# Altium footprint library Footprint.PcbLib: 240 footprints (part 9 of 15)
Each footprint in its own frame and in the unit in brackets; x right, y up, seen from the top. Pads: shape width x height; smd on the part's side, far side on the other; paste and mask are expansions set on the pad; w line width, h text height; cw(c..) or ccw(c..) is an arc to the next point about the centre after c.
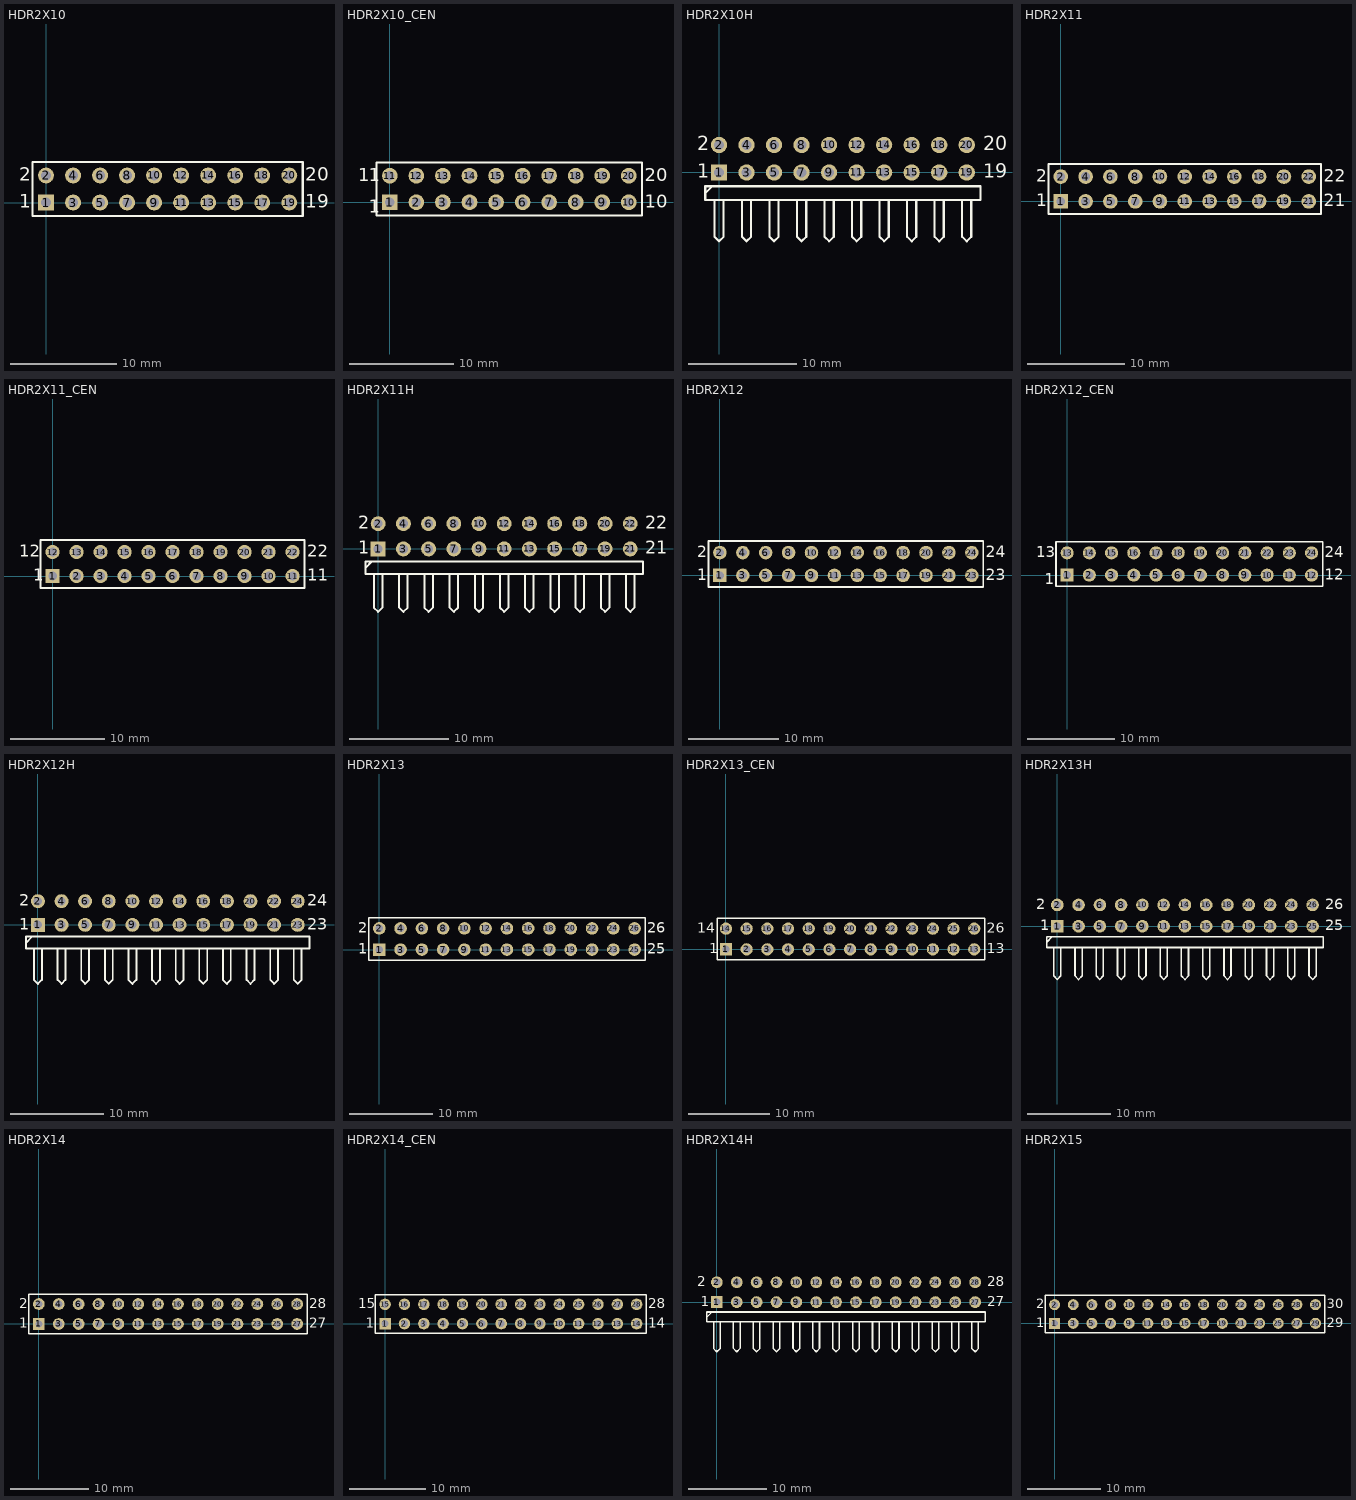
[diagram p8: the footprints below, top view; thin cyan lines are the x and y axes]

## HDR2X10 [mm] "Connector; Header; 10x2 Position"
pads (20):
  rect 1.5x1.5 hole 0.9: 1(0,0)
  round 1.5 hole 0.9: 2(0,2.54) 3(2.54,0) 4(2.54,2.54) 5(5.08,0) 6(5.08,2.54) 7(7.62,0) 8(7.62,2.54) 9(10.16,0) 10(10.16,2.54) 11(12.7,0) 12(12.7,2.54) 13(15.24,0) 14(15.24,2.54) 15(17.78,0) 16(17.78,2.54) 17(20.32,0) 18(20.32,2.54) 19(22.86,0) 20(22.86,2.54)
Top Overlay:
  lines w0.2: -1.27,-1.27 0.635,-1.27 24.13,-1.27 24.13,3.81 0.635,3.81 -1.27,3.81 -1.27,-1.27
  text "20" at 24.384,2.032 h1.27
  text "19" at 24.384,-0.508 h1.27
  text "1" at -2.54,-0.508 h1.27
  text "2" at -2.54,2.032 h1.27
3D body: height 1.5, standoff 0, extent 21.59,1.27 24.13,3.81
3D body: height 1.5, standoff 0, extent 21.59,-1.27 24.13,1.27
3D body: height 1.5, standoff 0, extent 19.05,1.27 21.59,3.81
3D body: height 1.5, standoff 0, extent 19.05,-1.27 21.59,1.27
3D body: height 1.5, standoff 0, extent 16.51,1.27 19.05,3.81
3D body: height 1.5, standoff 0, extent 16.51,-1.27 19.05,1.27
3D body: height 1.5, standoff 0, extent 13.97,1.27 16.51,3.81
3D body: height 1.5, standoff 0, extent 13.97,-1.27 16.51,1.27
3D body: height 1.5, standoff 0, extent 11.43,1.27 13.97,3.81
3D body: height 1.5, standoff 0, extent 11.43,-1.27 13.97,1.27
3D body: height 1.5, standoff 0, extent 8.89,1.27 11.43,3.81
3D body: height 1.5, standoff 0, extent 8.89,-1.27 11.43,1.27
3D body: height 1.5, standoff 0, extent 6.35,1.27 8.89,3.81
3D body: height 1.5, standoff 0, extent 6.35,-1.27 8.89,1.27
3D body: height 1.5, standoff 0, extent 3.81,1.27 6.35,3.81
3D body: height 1.5, standoff 0, extent 3.81,-1.27 6.35,1.27
3D body: height 1.5, standoff 0, extent 1.27,1.27 3.81,3.81
3D body: height 1.5, standoff 0, extent 1.27,-1.27 3.81,1.27
3D body: height 1.5, standoff 0, extent -1.143,1.143 1.397,3.683
3D body: height 1.5, standoff 0, extent -1.143,-1.397 1.397,1.143

## HDR2X10_CEN [mm] "Connector; Header; 10x2 Position"
pads (20):
  rect 1.5x1.5 hole 0.9: 1(0,0)
  round 1.5 hole 0.9: 2(2.54,0) 3(5.08,0) 4(7.62,0) 5(10.16,0) 6(12.7,0) 7(15.24,0) 8(17.78,0) 9(20.32,0) 10(22.86,0) 11(0,2.54) 12(2.54,2.54) 13(5.08,2.54) 14(7.62,2.54) 15(10.16,2.54) 16(12.7,2.54) 17(15.24,2.54) 18(17.78,2.54) 19(20.32,2.54) 20(22.86,2.54)
Top Overlay:
  lines w0.2: -1.27,-1.27 24.13,-1.27 24.13,3.81 -1.27,3.81 -1.27,-1.27
  text "1" at -2.032,-1.016 h1.27
  text "1" at -3.048,2.032 h1.27
  text "1" at -2.032,2.032 h1.27
  text "10" at 24.384,-0.508 h1.27
  text "20" at 24.384,2.032 h1.27
3D body: height 1.5, standoff 0, extent 21.59,1.27 24.13,3.81
3D body: height 1.5, standoff 0, extent 21.59,-1.27 24.13,1.27
3D body: height 1.5, standoff 0, extent 19.05,1.27 21.59,3.81
3D body: height 1.5, standoff 0, extent 19.05,-1.27 21.59,1.27
3D body: height 1.5, standoff 0, extent 16.51,1.27 19.05,3.81
3D body: height 1.5, standoff 0, extent 16.51,-1.27 19.05,1.27
3D body: height 1.5, standoff 0, extent 13.97,1.27 16.51,3.81
3D body: height 1.5, standoff 0, extent 13.97,-1.27 16.51,1.27
3D body: height 1.5, standoff 0, extent 11.43,1.27 13.97,3.81
3D body: height 1.5, standoff 0, extent 11.43,-1.27 13.97,1.27
3D body: height 1.5, standoff 0, extent 8.89,1.27 11.43,3.81
3D body: height 1.5, standoff 0, extent 8.89,-1.27 11.43,1.27
3D body: height 1.5, standoff 0, extent 6.35,1.27 8.89,3.81
3D body: height 1.5, standoff 0, extent 6.35,-1.27 8.89,1.27
3D body: height 1.5, standoff 0, extent 3.81,1.27 6.35,3.81
3D body: height 1.5, standoff 0, extent 3.81,-1.27 6.35,1.27
3D body: height 1.5, standoff 0, extent 1.27,1.27 3.81,3.81
3D body: height 1.5, standoff 0, extent 1.27,-1.27 3.81,1.27
3D body: height 1.5, standoff 0, extent -1.27,1.27 1.27,3.81
3D body: height 1.5, standoff 0, extent -1.27,-1.27 1.27,1.27

## HDR2X10H [mm] "Connector; Header; 10x2 Position; Right Angle"
pads (20):
  rect 1.5x1.5 hole 0.9: 1(0,0)
  round 1.5 hole 0.9: 2(0,2.54) 3(2.54,0) 4(2.54,2.54) 5(5.08,0) 6(5.08,2.54) 7(7.62,0) 8(7.62,2.54) 9(10.16,0) 10(10.16,2.54) 11(12.7,0) 12(12.7,2.54) 13(15.24,0) 14(15.24,2.54) 15(17.78,0) 16(17.78,2.54) 17(20.32,0) 18(20.32,2.54) 19(22.86,0) 20(22.86,2.54)
Top Overlay:
  lines w0.2: -1.27,-1.905 -0.635,-1.27 ; -0.423,-2.54 -0.423,-5.927 0,-6.35 0.423,-5.927 0.423,-2.54 ; 2.117,-2.54 2.117,-5.927 2.54,-6.35 2.963,-5.927 2.963,-2.54 ; 4.657,-2.54 4.657,-5.927 5.08,-6.35 5.503,-5.927 5.503,-2.54 ; 7.197,-2.54 7.197,-5.927 7.62,-6.35 8.043,-5.927 8.043,-2.54 ; 9.737,-2.54 9.737,-5.927 10.16,-6.35 10.583,-5.927 10.583,-2.54 ; 12.277,-2.54 12.277,-5.927 12.7,-6.35 13.123,-5.927 13.123,-2.54 ; 14.817,-2.54 14.817,-5.927 15.24,-6.35 15.663,-5.927 15.663,-2.54 ; 17.357,-2.54 17.357,-5.927 17.78,-6.35 18.203,-5.927 18.203,-2.54 ; 19.897,-2.54 19.897,-5.927 20.32,-6.35 20.743,-5.927 20.743,-2.54 ; 22.437,-2.54 22.437,-5.927 22.86,-6.35 23.283,-5.927 23.283,-2.54 ; -1.27,-2.54 24.13,-2.54 24.13,-1.27 -1.27,-1.27 -1.27,-2.54
  text "20" at 24.384,2.032 h1.27
  text "19" at 24.384,-0.508 h1.27
  text "2" at -2.032,2.032 h1.27
  text "1" at -2.032,-0.508 h1.27

## HDR2X11 [mm] "Connector; Header; 11x2 Position"
pads (22):
  rect 1.5x1.5 hole 0.9: 1(0,0)
  round 1.5 hole 0.9: 2(0,2.54) 3(2.54,0) 4(2.54,2.54) 5(5.08,0) 6(5.08,2.54) 7(7.62,0) 8(7.62,2.54) 9(10.16,0) 10(10.16,2.54) 11(12.7,0) 12(12.7,2.54) 13(15.24,0) 14(15.24,2.54) 15(17.78,0) 16(17.78,2.54) 17(20.32,0) 18(20.32,2.54) 19(22.86,0) 20(22.86,2.54) 21(25.4,0) 22(25.4,2.54)
Top Overlay:
  lines w0.2: -1.27,-1.27 26.67,-1.27 26.67,3.81 -1.27,3.81 -1.27,-1.27
  text "22" at 26.924,2.032 h1.27
  text "21" at 26.924,-0.508 h1.27
  text "2" at -2.54,2.032 h1.27
  text "1" at -2.54,-0.508 h1.27
3D body: height 1.5, standoff 0, extent 24.13,1.27 26.67,3.81
3D body: height 1.5, standoff 0, extent 24.13,-1.27 26.67,1.27
3D body: height 1.5, standoff 0, extent 21.59,1.27 24.13,3.81
3D body: height 1.5, standoff 0, extent 21.59,-1.27 24.13,1.27
3D body: height 1.5, standoff 0, extent 19.05,1.27 21.59,3.81
3D body: height 1.5, standoff 0, extent 19.05,-1.27 21.59,1.27
3D body: height 1.5, standoff 0, extent 16.51,1.27 19.05,3.81
3D body: height 1.5, standoff 0, extent 16.51,-1.27 19.05,1.27
3D body: height 1.5, standoff 0, extent 13.97,1.27 16.51,3.81
3D body: height 1.5, standoff 0, extent 13.97,-1.27 16.51,1.27
3D body: height 1.5, standoff 0, extent 11.43,1.27 13.97,3.81
3D body: height 1.5, standoff 0, extent 11.43,-1.27 13.97,1.27
3D body: height 1.5, standoff 0, extent 8.89,1.27 11.43,3.81
3D body: height 1.5, standoff 0, extent 8.89,-1.27 11.43,1.27
3D body: height 1.5, standoff 0, extent 6.35,1.27 8.89,3.81
3D body: height 1.5, standoff 0, extent 6.35,-1.27 8.89,1.27
3D body: height 1.5, standoff 0, extent 3.81,1.27 6.35,3.81
3D body: height 1.5, standoff 0, extent 3.81,-1.27 6.35,1.27
3D body: height 1.5, standoff 0, extent 1.27,1.27 3.81,3.81
3D body: height 1.5, standoff 0, extent 1.27,-1.27 3.81,1.27
3D body: height 1.5, standoff 0, extent -1.27,1.27 1.27,3.81
3D body: height 1.5, standoff 0, extent -1.27,-1.27 1.27,1.27

## HDR2X11_CEN [mm] "Connector; Header; 11x2 Position"
pads (22):
  rect 1.5x1.5 hole 0.9: 1(0,0)
  round 1.5 hole 0.9: 2(2.54,0) 3(5.08,0) 4(7.62,0) 5(10.16,0) 6(12.7,0) 7(15.24,0) 8(17.78,0) 9(20.32,0) 10(22.86,0) 11(25.4,0) 12(0,2.54) 13(2.54,2.54) 14(5.08,2.54) 15(7.62,2.54) 16(10.16,2.54) 17(12.7,2.54) 18(15.24,2.54) 19(17.78,2.54) 20(20.32,2.54) 21(22.86,2.54) 22(25.4,2.54)
Top Overlay:
  lines w0.2: -1.27,-1.27 -1.27,3.81 26.67,3.81 26.67,-1.27 -1.27,-1.27
  text "1" at -2.032,-0.508 h1.27
  text "12" at -3.556,2.032 h1.27
  text "11" at 26.924,-0.508 h1.27
  text "22" at 26.924,2.032 h1.27
3D body: height 1.5, standoff 0, extent 24.13,1.27 26.67,3.81
3D body: height 1.5, standoff 0, extent 24.13,-1.27 26.67,1.27
3D body: height 1.5, standoff 0, extent 21.59,1.27 24.13,3.81
3D body: height 1.5, standoff 0, extent 21.59,-1.27 24.13,1.27
3D body: height 1.5, standoff 0, extent 19.05,1.27 21.59,3.81
3D body: height 1.5, standoff 0, extent 19.05,-1.27 21.59,1.27
3D body: height 1.5, standoff 0, extent 16.51,1.27 19.05,3.81
3D body: height 1.5, standoff 0, extent 16.51,-1.27 19.05,1.27
3D body: height 1.5, standoff 0, extent 13.97,1.27 16.51,3.81
3D body: height 1.5, standoff 0, extent 13.97,-1.27 16.51,1.27
3D body: height 1.5, standoff 0, extent 11.43,1.27 13.97,3.81
3D body: height 1.5, standoff 0, extent 11.43,-1.27 13.97,1.27
3D body: height 1.5, standoff 0, extent 8.89,1.27 11.43,3.81
3D body: height 1.5, standoff 0, extent 8.89,-1.27 11.43,1.27
3D body: height 1.5, standoff 0, extent 6.35,1.27 8.89,3.81
3D body: height 1.5, standoff 0, extent 6.35,-1.27 8.89,1.27
3D body: height 1.5, standoff 0, extent 3.81,1.27 6.35,3.81
3D body: height 1.5, standoff 0, extent 3.81,-1.27 6.35,1.27
3D body: height 1.5, standoff 0, extent 1.27,1.27 3.81,3.81
3D body: height 1.5, standoff 0, extent 1.27,-1.27 3.81,1.27
3D body: height 1.5, standoff 0, extent -1.27,1.27 1.27,3.81
3D body: height 1.5, standoff 0, extent -1.27,-1.27 1.27,1.27

## HDR2X11H [mm] "Connector; Header; 11x2 Position; Right Angle"
pads (22):
  rect 1.5x1.5 hole 0.9: 1(0,0)
  round 1.5 hole 0.9: 2(0,2.54) 3(2.54,0) 4(2.54,2.54) 5(5.08,0) 6(5.08,2.54) 7(7.62,0) 8(7.62,2.54) 9(10.16,0) 10(10.16,2.54) 11(12.7,0) 12(12.7,2.54) 13(15.24,0) 14(15.24,2.54) 15(17.78,0) 16(17.78,2.54) 17(20.32,0) 18(20.32,2.54) 19(22.86,0) 20(22.86,2.54) 21(25.4,0) 22(25.4,2.54)
Top Overlay:
  lines w0.2: -1.27,-1.905 -0.635,-1.27 ; -0.423,-2.54 -0.423,-5.927 0,-6.35 0.423,-5.927 0.423,-2.54 ; 2.117,-2.54 2.117,-5.927 2.54,-6.35 2.963,-5.927 2.963,-2.54 ; 4.657,-2.54 4.657,-5.927 5.08,-6.35 5.503,-5.927 5.503,-2.54 ; 7.197,-2.54 7.197,-5.927 7.62,-6.35 8.043,-5.927 8.043,-2.54 ; 9.737,-2.54 9.737,-5.927 10.16,-6.35 10.583,-5.927 10.583,-2.54 ; 12.277,-2.54 12.277,-5.927 12.7,-6.35 13.123,-5.927 13.123,-2.54 ; 14.817,-2.54 14.817,-5.927 15.24,-6.35 15.663,-5.927 15.663,-2.54 ; 17.357,-2.54 17.357,-5.927 17.78,-6.35 18.203,-5.927 18.203,-2.54 ; 19.897,-2.54 19.897,-5.927 20.32,-6.35 20.743,-5.927 20.743,-2.54 ; 22.437,-2.54 22.437,-5.927 22.86,-6.35 23.283,-5.927 23.283,-2.54 ; 24.977,-2.54 24.977,-5.927 25.4,-6.35 25.823,-5.927 25.823,-2.54 ; -1.27,-2.54 -1.27,-1.27 26.67,-1.27 26.67,-2.54 -1.27,-2.54
  text "22" at 26.924,2.032 h1.27
  text "21" at 26.924,-0.508 h1.27
  text "1" at -2.032,-0.508 h1.27
  text "2" at -2.032,2.032 h1.27

## HDR2X12 [mm] "Connector; Header; 12x2 Position"
pads (24):
  rect 1.5x1.5 hole 0.9: 1(0,0)
  round 1.5 hole 0.9: 2(0,2.54) 3(2.54,0) 4(2.54,2.54) 5(5.08,0) 6(5.08,2.54) 7(7.62,0) 8(7.62,2.54) 9(10.16,0) 10(10.16,2.54) 11(12.7,0) 12(12.7,2.54) 13(15.24,0) 14(15.24,2.54) 15(17.78,0) 16(17.78,2.54) 17(20.32,0) 18(20.32,2.54) 19(22.86,0) 20(22.86,2.54) 21(25.4,0) 22(25.4,2.54) 23(27.94,0) 24(27.94,2.54)
Top Overlay:
  lines w0.2: -1.27,-1.27 29.21,-1.27 29.21,3.81 -1.27,3.81 -1.27,-1.27
  text "24" at 29.464,2.032 h1.27
  text "23" at 29.464,-0.508 h1.27
  text "2" at -2.54,2.032 h1.27
  text "1" at -2.54,-0.508 h1.27
3D body: height 1.5, standoff 0, extent -1.27,-1.27 1.27,1.27
3D body: height 1.5, standoff 0, extent -1.27,1.27 1.27,3.81
3D body: height 1.5, standoff 0, extent 1.27,-1.27 3.81,1.27
3D body: height 1.5, standoff 0, extent 1.27,1.27 3.81,3.81
3D body: height 1.5, standoff 0, extent 3.81,-1.27 6.35,1.27
3D body: height 1.5, standoff 0, extent 3.81,1.27 6.35,3.81
3D body: height 1.5, standoff 0, extent 6.35,-1.27 8.89,1.27
3D body: height 1.5, standoff 0, extent 6.35,1.27 8.89,3.81
3D body: height 1.5, standoff 0, extent 8.89,-1.27 11.43,1.27
3D body: height 1.5, standoff 0, extent 8.89,1.27 11.43,3.81
3D body: height 1.5, standoff 0, extent 11.43,-1.27 13.97,1.27
3D body: height 1.5, standoff 0, extent 11.43,1.27 13.97,3.81
3D body: height 1.5, standoff 0, extent 13.97,-1.27 16.51,1.27
3D body: height 1.5, standoff 0, extent 13.97,1.27 16.51,3.81
3D body: height 1.5, standoff 0, extent 16.51,-1.27 19.05,1.27
3D body: height 1.5, standoff 0, extent 16.51,1.27 19.05,3.81
3D body: height 1.5, standoff 0, extent 19.05,-1.27 21.59,1.27
3D body: height 1.5, standoff 0, extent 19.05,1.27 21.59,3.81
3D body: height 1.5, standoff 0, extent 21.59,-1.27 24.13,1.27
3D body: height 1.5, standoff 0, extent 21.59,1.27 24.13,3.81
3D body: height 1.5, standoff 0, extent 24.13,-1.27 26.67,1.27
3D body: height 1.5, standoff 0, extent 24.13,1.27 26.67,3.81
3D body: height 1.5, standoff 0, extent 26.67,1.27 29.21,3.81
3D body: height 1.5, standoff 0, extent 26.67,-1.27 29.21,1.27

## HDR2X12_CEN [mm] "Connector; Header; 12x2 Position"
pads (24):
  rect 1.5x1.5 hole 0.9: 1(0,0)
  round 1.5 hole 0.9: 2(2.54,0) 3(5.08,0) 4(7.62,0) 5(10.16,0) 6(12.7,0) 7(15.24,0) 8(17.78,0) 9(20.32,0) 10(22.86,0) 11(25.4,0) 12(27.94,0) 13(0,2.54) 14(2.54,2.54) 15(5.08,2.54) 16(7.62,2.54) 17(10.16,2.54) 18(12.7,2.54) 19(15.24,2.54) 20(17.78,2.54) 21(20.32,2.54) 22(22.86,2.54) 23(25.4,2.54) 24(27.94,2.54)
Top Overlay:
  lines w0.2: -1.27,-1.27 29.21,-1.27 29.21,3.81 -1.27,3.81 -1.27,-1.27
  text "1" at -2.54,-1.016 h1.27
  text "13" at -3.556,2.032 h1.27
  text "12" at 29.464,-0.508 h1.27
  text "24" at 29.464,2.032 h1.27
3D body: height 1.5, standoff 0, extent -1.27,-1.27 1.27,1.27
3D body: height 1.5, standoff 0, extent -1.27,1.27 1.27,3.81
3D body: height 1.5, standoff 0, extent 1.27,-1.27 3.81,1.27
3D body: height 1.5, standoff 0, extent 1.27,1.27 3.81,3.81
3D body: height 1.5, standoff 0, extent 3.81,-1.27 6.35,1.27
3D body: height 1.5, standoff 0, extent 3.81,1.27 6.35,3.81
3D body: height 1.5, standoff 0, extent 6.35,-1.27 8.89,1.27
3D body: height 1.5, standoff 0, extent 6.35,1.27 8.89,3.81
3D body: height 1.5, standoff 0, extent 8.89,-1.27 11.43,1.27
3D body: height 1.5, standoff 0, extent 8.89,1.27 11.43,3.81
3D body: height 1.5, standoff 0, extent 11.43,-1.27 13.97,1.27
3D body: height 1.5, standoff 0, extent 11.43,1.27 13.97,3.81
3D body: height 1.5, standoff 0, extent 13.97,-1.27 16.51,1.27
3D body: height 1.5, standoff 0, extent 13.97,1.27 16.51,3.81
3D body: height 1.5, standoff 0, extent 16.51,-1.27 19.05,1.27
3D body: height 1.5, standoff 0, extent 16.51,1.27 19.05,3.81
3D body: height 1.5, standoff 0, extent 19.05,-1.27 21.59,1.27
3D body: height 1.5, standoff 0, extent 19.05,1.27 21.59,3.81
3D body: height 1.5, standoff 0, extent 21.59,-1.27 24.13,1.27
3D body: height 1.5, standoff 0, extent 21.59,1.27 24.13,3.81
3D body: height 1.5, standoff 0, extent 24.13,-1.27 26.67,1.27
3D body: height 1.5, standoff 0, extent 24.13,1.27 26.67,3.81
3D body: height 1.5, standoff 0, extent 26.67,1.27 29.21,3.81
3D body: height 1.5, standoff 0, extent 26.67,-1.27 29.21,1.27

## HDR2X12H [mm] "Connector; Header; 12x2 Position; Right Angle"
pads (24):
  rect 1.5x1.5 hole 0.9: 1(0,0)
  round 1.5 hole 0.9: 2(0,2.54) 3(2.54,0) 4(2.54,2.54) 5(5.08,0) 6(5.08,2.54) 7(7.62,0) 8(7.62,2.54) 9(10.16,0) 10(10.16,2.54) 11(12.7,0) 12(12.7,2.54) 13(15.24,0) 14(15.24,2.54) 15(17.78,0) 16(17.78,2.54) 17(20.32,0) 18(20.32,2.54) 19(22.86,0) 20(22.86,2.54) 21(25.4,0) 22(25.4,2.54) 23(27.94,0) 24(27.94,2.54)
Top Overlay:
  lines w0.2: -1.27,-1.905 -0.635,-1.27 ; -0.423,-2.54 -0.423,-5.927 0,-6.35 0.423,-5.927 0.423,-2.54 ; 2.117,-2.54 2.117,-5.927 2.54,-6.35 2.963,-5.927 2.963,-2.54 ; 4.657,-2.54 4.657,-5.927 5.08,-6.35 5.503,-5.927 5.503,-2.54 ; 7.197,-2.54 7.197,-5.927 7.62,-6.35 8.043,-5.927 8.043,-2.54 ; 9.737,-2.54 9.737,-5.927 10.16,-6.35 10.583,-5.927 10.583,-2.54 ; 12.277,-2.54 12.277,-5.927 12.7,-6.35 13.123,-5.927 13.123,-2.54 ; 14.817,-2.54 14.817,-5.927 15.24,-6.35 15.663,-5.927 15.663,-2.54 ; 17.357,-2.54 17.357,-5.927 17.78,-6.35 18.203,-5.927 18.203,-2.54 ; 19.897,-2.54 19.897,-5.927 20.32,-6.35 20.743,-5.927 20.743,-2.54 ; 22.437,-2.54 22.437,-5.927 22.86,-6.35 23.283,-5.927 23.283,-2.54 ; 24.977,-2.54 24.977,-5.927 25.4,-6.35 25.823,-5.927 25.823,-2.54 ; 27.517,-2.54 27.517,-5.927 27.94,-6.35 28.363,-5.927 28.363,-2.54 ; -1.27,-2.54 -1.27,-1.27 29.21,-1.27 29.21,-2.54 -1.27,-2.54
  text "24" at 28.956,2.032 h1.27
  text "23" at 28.956,-0.508 h1.27
  text "2" at -2.032,2.032 h1.27
  text "1" at -2.032,-0.508 h1.27

## HDR2X13 [mm] "Connector; Header; 13x2 Position"
pads (26):
  rect 1.5x1.5 hole 0.9: 1(0,0)
  round 1.5 hole 0.9: 2(0,2.54) 3(2.54,0) 4(2.54,2.54) 5(5.08,0) 6(5.08,2.54) 7(7.62,0) 8(7.62,2.54) 9(10.16,0) 10(10.16,2.54) 11(12.7,0) 12(12.7,2.54) 13(15.24,0) 14(15.24,2.54) 15(17.78,0) 16(17.78,2.54) 17(20.32,0) 18(20.32,2.54) 19(22.86,0) 20(22.86,2.54) 21(25.4,0) 22(25.4,2.54) 23(27.94,0) 24(27.94,2.54) 25(30.48,0) 26(30.48,2.54)
Top Overlay:
  lines w0.2: -1.27,-1.27 31.75,-1.27 31.75,3.81 -1.27,3.81 -1.27,-1.27
  text "26" at 32.004,2.032 h1.27
  text "25" at 32.004,-0.508 h1.27
  text "1" at -2.54,-0.508 h1.27
  text "2" at -2.54,2.032 h1.27
3D body: height 1.5, standoff 0, extent 26.67,-1.27 29.21,1.27
3D body: height 1.5, standoff 0, extent 26.67,1.27 29.21,3.81
3D body: height 1.5, standoff 0, extent 29.21,-1.27 31.75,1.27
3D body: height 1.5, standoff 0, extent 29.21,1.27 31.75,3.81
3D body: height 1.5, standoff 0, extent 24.13,1.27 26.67,3.81
3D body: height 1.5, standoff 0, extent 24.13,-1.27 26.67,1.27
3D body: height 1.5, standoff 0, extent 21.59,1.27 24.13,3.81
3D body: height 1.5, standoff 0, extent 21.59,-1.27 24.13,1.27
3D body: height 1.5, standoff 0, extent 19.05,1.27 21.59,3.81
3D body: height 1.5, standoff 0, extent 19.05,-1.27 21.59,1.27
3D body: height 1.5, standoff 0, extent 16.51,1.27 19.05,3.81
3D body: height 1.5, standoff 0, extent 16.51,-1.27 19.05,1.27
3D body: height 1.5, standoff 0, extent 13.97,1.27 16.51,3.81
3D body: height 1.5, standoff 0, extent 13.97,-1.27 16.51,1.27
3D body: height 1.5, standoff 0, extent 11.43,1.27 13.97,3.81
3D body: height 1.5, standoff 0, extent 11.43,-1.27 13.97,1.27
3D body: height 1.5, standoff 0, extent 8.89,1.27 11.43,3.81
3D body: height 1.5, standoff 0, extent 8.89,-1.27 11.43,1.27
3D body: height 1.5, standoff 0, extent 6.35,1.27 8.89,3.81
3D body: height 1.5, standoff 0, extent 6.35,-1.27 8.89,1.27
3D body: height 1.5, standoff 0, extent 3.81,1.27 6.35,3.81
3D body: height 1.5, standoff 0, extent 3.81,-1.27 6.35,1.27
3D body: height 1.5, standoff 0, extent 1.27,1.27 3.81,3.81
3D body: height 1.5, standoff 0, extent 1.27,-1.27 3.81,1.27
3D body: height 1.5, standoff 0, extent -1.27,1.27 1.27,3.81
3D body: height 1.5, standoff 0, extent -1.27,-1.27 1.27,1.27

## HDR2X13_CEN [mm] "Connector; Header; 13x2 Position"
pads (26):
  rect 1.5x1.5 hole 0.9: 1(0,0)
  round 1.5 hole 0.9: 2(2.54,0) 3(5.08,0) 4(7.62,0) 5(10.16,0) 6(12.7,0) 7(15.24,0) 8(17.78,0) 9(20.32,0) 10(22.86,0) 11(25.4,0) 12(27.94,0) 13(30.48,0) 14(0,2.54) 15(2.54,2.54) 16(5.08,2.54) 17(7.62,2.54) 18(10.16,2.54) 19(12.7,2.54) 20(15.24,2.54) 21(17.78,2.54) 22(20.32,2.54) 23(22.86,2.54) 24(25.4,2.54) 25(27.94,2.54) 26(30.48,2.54)
Top Overlay:
  lines w0.2: -1.058,-1.27 31.75,-1.27 31.75,3.81 -1.058,3.81 -1.058,-1.27
  text "1" at -2.032,-0.508 h1.27
  text "14" at -3.556,2.032 h1.27
  text "13" at 32.004,-0.508 h1.27
  text "26" at 32.004,2.032 h1.27
3D body: height 1.5, standoff 0, extent 26.67,-1.27 29.21,1.27
3D body: height 1.5, standoff 0, extent 26.67,1.27 29.21,3.81
3D body: height 1.5, standoff 0, extent 29.21,-1.27 31.75,1.27
3D body: height 1.5, standoff 0, extent 29.21,1.27 31.75,3.81
3D body: height 1.5, standoff 0, extent 24.13,1.27 26.67,3.81
3D body: height 1.5, standoff 0, extent 24.13,-1.27 26.67,1.27
3D body: height 1.5, standoff 0, extent 21.59,1.27 24.13,3.81
3D body: height 1.5, standoff 0, extent 21.59,-1.27 24.13,1.27
3D body: height 1.5, standoff 0, extent 19.05,1.27 21.59,3.81
3D body: height 1.5, standoff 0, extent 19.05,-1.27 21.59,1.27
3D body: height 1.5, standoff 0, extent 16.51,1.27 19.05,3.81
3D body: height 1.5, standoff 0, extent 16.51,-1.27 19.05,1.27
3D body: height 1.5, standoff 0, extent 13.97,1.27 16.51,3.81
3D body: height 1.5, standoff 0, extent 13.97,-1.27 16.51,1.27
3D body: height 1.5, standoff 0, extent 11.43,1.27 13.97,3.81
3D body: height 1.5, standoff 0, extent 11.43,-1.27 13.97,1.27
3D body: height 1.5, standoff 0, extent 8.89,1.27 11.43,3.81
3D body: height 1.5, standoff 0, extent 8.89,-1.27 11.43,1.27
3D body: height 1.5, standoff 0, extent 6.35,1.27 8.89,3.81
3D body: height 1.5, standoff 0, extent 6.35,-1.27 8.89,1.27
3D body: height 1.5, standoff 0, extent 3.81,1.27 6.35,3.81
3D body: height 1.5, standoff 0, extent 3.81,-1.27 6.35,1.27
3D body: height 1.5, standoff 0, extent 1.27,1.27 3.81,3.81
3D body: height 1.5, standoff 0, extent 1.27,-1.27 3.81,1.27
3D body: height 1.5, standoff 0, extent -1.27,1.27 1.27,3.81
3D body: height 1.5, standoff 0, extent -1.27,-1.27 1.27,1.27

## HDR2X13H [mm] "Connector; Header; 13x2 Position; Right Angle"
pads (26):
  rect 1.5x1.5 hole 0.9: 1(0,0)
  round 1.5 hole 0.9: 2(0,2.54) 3(2.54,0) 4(2.54,2.54) 5(5.08,0) 6(5.08,2.54) 7(7.62,0) 8(7.62,2.54) 9(10.16,0) 10(10.16,2.54) 11(12.7,0) 12(12.7,2.54) 13(15.24,0) 14(15.24,2.54) 15(17.78,0) 16(17.78,2.54) 17(20.32,0) 18(20.32,2.54) 19(22.86,0) 20(22.86,2.54) 21(25.4,0) 22(25.4,2.54) 23(27.94,0) 24(27.94,2.54) 25(30.48,0) 26(30.48,2.54)
Top Overlay:
  lines w0.2: -1.27,-1.905 -0.635,-1.27 ; -0.423,-2.54 -0.423,-5.927 0,-6.35 0.423,-5.927 0.423,-2.54 ; 2.117,-2.54 2.117,-5.927 2.54,-6.35 2.963,-5.927 2.963,-2.54 ; 4.657,-2.54 4.657,-5.927 5.08,-6.35 5.503,-5.927 5.503,-2.54 ; 7.197,-2.54 7.197,-5.927 7.62,-6.35 8.043,-5.927 8.043,-2.54 ; 9.737,-2.54 9.737,-5.927 10.16,-6.35 10.583,-5.927 10.583,-2.54 ; 12.277,-2.54 12.277,-5.927 12.7,-6.35 13.123,-5.927 13.123,-2.54 ; 14.817,-2.54 14.817,-5.927 15.24,-6.35 15.663,-5.927 15.663,-2.54 ; 17.357,-2.54 17.357,-5.927 17.78,-6.35 18.203,-5.927 18.203,-2.54 ; 19.897,-2.54 19.897,-5.927 20.32,-6.35 20.743,-5.927 20.743,-2.54 ; 22.437,-2.54 22.437,-5.927 22.86,-6.35 23.283,-5.927 23.283,-2.54 ; 24.977,-2.54 24.977,-5.927 25.4,-6.35 25.823,-5.927 25.823,-2.54 ; 27.517,-2.54 27.517,-5.927 27.94,-6.35 28.363,-5.927 28.363,-2.54 ; 30.057,-2.54 30.057,-5.927 30.48,-6.35 30.903,-5.927 30.903,-2.54 ; -1.27,-2.54 -1.27,-1.27 31.75,-1.27 31.75,-2.54 -1.27,-2.54
  text "26" at 32.004,2.032 h1.27
  text "25" at 32.004,-0.508 h1.27
  text "1" at -2.032,-0.508 h1.27
  text "2" at -2.54,2.032 h1.27

## HDR2X14 [mm] "Connector; Header; 14x2 Position"
pads (28):
  rect 1.5x1.5 hole 0.9: 1(0,0)
  round 1.5 hole 0.9: 2(0,2.54) 3(2.54,0) 4(2.54,2.54) 5(5.08,0) 6(5.08,2.54) 7(7.62,0) 8(7.62,2.54) 9(10.16,0) 10(10.16,2.54) 11(12.7,0) 12(12.7,2.54) 13(15.24,0) 14(15.24,2.54) 15(17.78,0) 16(17.78,2.54) 17(20.32,0) 18(20.32,2.54) 19(22.86,0) 20(22.86,2.54) 21(25.4,0) 22(25.4,2.54) 23(27.94,0) 24(27.94,2.54) 25(30.48,0) 26(30.48,2.54) 27(33.02,0) 28(33.02,2.54)
Top Overlay:
  lines w0.2: -1.27,-1.27 -1.27,3.81 34.29,3.81 34.29,-1.27 -1.27,-1.27
  text "2" at -2.54,2.032 h1.27
  text "1" at -2.54,-0.508 h1.27
  text "27" at 34.544,-0.508 h1.27
  text "28" at 34.544,2.032 h1.27
3D body: height 1.5, standoff 0, extent -1.27,-1.27 1.27,1.27
3D body: height 1.5, standoff 0, extent -1.27,1.27 1.27,3.81
3D body: height 1.5, standoff 0, extent 1.27,-1.27 3.81,1.27
3D body: height 1.5, standoff 0, extent 1.27,1.27 3.81,3.81
3D body: height 1.5, standoff 0, extent 3.81,-1.27 6.35,1.27
3D body: height 1.5, standoff 0, extent 3.81,1.27 6.35,3.81
3D body: height 1.5, standoff 0, extent 6.35,-1.27 8.89,1.27
3D body: height 1.5, standoff 0, extent 6.35,1.27 8.89,3.81
3D body: height 1.5, standoff 0, extent 8.89,-1.27 11.43,1.27
3D body: height 1.5, standoff 0, extent 8.89,1.27 11.43,3.81
3D body: height 1.5, standoff 0, extent 11.43,-1.27 13.97,1.27
3D body: height 1.5, standoff 0, extent 11.43,1.27 13.97,3.81
3D body: height 1.5, standoff 0, extent 13.97,-1.27 16.51,1.27
3D body: height 1.5, standoff 0, extent 13.97,1.27 16.51,3.81
3D body: height 1.5, standoff 0, extent 16.51,-1.27 19.05,1.27
3D body: height 1.5, standoff 0, extent 16.51,1.27 19.05,3.81
3D body: height 1.5, standoff 0, extent 19.05,-1.27 21.59,1.27
3D body: height 1.5, standoff 0, extent 19.05,1.27 21.59,3.81
3D body: height 1.5, standoff 0, extent 21.59,-1.27 24.13,1.27
3D body: height 1.5, standoff 0, extent 21.59,1.27 24.13,3.81
3D body: height 1.5, standoff 0, extent 24.13,-1.27 26.67,1.27
3D body: height 1.5, standoff 0, extent 24.13,1.27 26.67,3.81
3D body: height 1.5, standoff 0, extent 29.21,1.27 31.75,3.81
3D body: height 1.5, standoff 0, extent 29.21,-1.27 31.75,1.27
3D body: height 1.5, standoff 0, extent 26.67,1.27 29.21,3.81
3D body: height 1.5, standoff 0, extent 26.67,-1.27 29.21,1.27
3D body: height 1.5, standoff 0, extent 31.75,1.27 34.29,3.81
3D body: height 1.5, standoff 0, extent 31.75,-1.27 34.29,1.27

## HDR2X14_CEN [mm] "Connector; Header; 14x2 Position"
pads (28):
  rect 1.5x1.5 hole 0.9: 1(0,0)
  round 1.5 hole 0.9: 2(2.54,0) 3(5.08,0) 4(7.62,0) 5(10.16,0) 6(12.7,0) 7(15.24,0) 8(17.78,0) 9(20.32,0) 10(22.86,0) 11(25.4,0) 12(27.94,0) 13(30.48,0) 14(33.02,0) 15(0,2.54) 16(2.54,2.54) 17(5.08,2.54) 18(7.62,2.54) 19(10.16,2.54) 20(12.7,2.54) 21(15.24,2.54) 22(17.78,2.54) 23(20.32,2.54) 24(22.86,2.54) 25(25.4,2.54) 26(27.94,2.54) 27(30.48,2.54) 28(33.02,2.54)
Top Overlay:
  lines w0.2: -1.27,-1.27 -1.27,3.81 34.29,3.81 34.29,-1.27 -1.27,-1.27
  text "28" at 34.544,2.032 h1.27
  text "14" at 34.544,-0.508 h1.27
  text "1" at -2.54,-0.508 h1.27
  text "15" at -3.556,2.032 h1.27
3D body: height 1.5, standoff 0, extent 31.75,-1.27 34.29,1.27
3D body: height 1.5, standoff 0, extent 31.75,1.27 34.29,3.81
3D body: height 1.5, standoff 0, extent 26.67,-1.27 29.21,1.27
3D body: height 1.5, standoff 0, extent 26.67,1.27 29.21,3.81
3D body: height 1.5, standoff 0, extent 29.21,-1.27 31.75,1.27
3D body: height 1.5, standoff 0, extent 29.21,1.27 31.75,3.81
3D body: height 1.5, standoff 0, extent 24.13,1.27 26.67,3.81
3D body: height 1.5, standoff 0, extent 24.13,-1.27 26.67,1.27
3D body: height 1.5, standoff 0, extent 21.59,1.27 24.13,3.81
3D body: height 1.5, standoff 0, extent 21.59,-1.27 24.13,1.27
3D body: height 1.5, standoff 0, extent 19.05,1.27 21.59,3.81
3D body: height 1.5, standoff 0, extent 19.05,-1.27 21.59,1.27
3D body: height 1.5, standoff 0, extent 16.51,1.27 19.05,3.81
3D body: height 1.5, standoff 0, extent 16.51,-1.27 19.05,1.27
3D body: height 1.5, standoff 0, extent 13.97,1.27 16.51,3.81
3D body: height 1.5, standoff 0, extent 13.97,-1.27 16.51,1.27
3D body: height 1.5, standoff 0, extent 11.43,1.27 13.97,3.81
3D body: height 1.5, standoff 0, extent 11.43,-1.27 13.97,1.27
3D body: height 1.5, standoff 0, extent 8.89,1.27 11.43,3.81
3D body: height 1.5, standoff 0, extent 8.89,-1.27 11.43,1.27
3D body: height 1.5, standoff 0, extent 6.35,1.27 8.89,3.81
3D body: height 1.5, standoff 0, extent 6.35,-1.27 8.89,1.27
3D body: height 1.5, standoff 0, extent 3.81,1.27 6.35,3.81
3D body: height 1.5, standoff 0, extent 3.81,-1.27 6.35,1.27
3D body: height 1.5, standoff 0, extent 1.27,1.27 3.81,3.81
3D body: height 1.5, standoff 0, extent 1.27,-1.27 3.81,1.27
3D body: height 1.5, standoff 0, extent -1.27,1.27 1.27,3.81
3D body: height 1.5, standoff 0, extent -1.27,-1.27 1.27,1.27

## HDR2X14H [mm] "Connector; Header; 14x2 Position; Right Angle"
pads (28):
  rect 1.5x1.5 hole 0.9: 1(0,0)
  round 1.5 hole 0.9: 2(0,2.54) 3(2.54,0) 4(2.54,2.54) 5(5.08,0) 6(5.08,2.54) 7(7.62,0) 8(7.62,2.54) 9(10.16,0) 10(10.16,2.54) 11(12.7,0) 12(12.7,2.54) 13(15.24,0) 14(15.24,2.54) 15(17.78,0) 16(17.78,2.54) 17(20.32,0) 18(20.32,2.54) 19(22.86,0) 20(22.86,2.54) 21(25.4,0) 22(25.4,2.54) 23(27.94,0) 24(27.94,2.54) 25(30.48,0) 26(30.48,2.54) 27(33.02,0) 28(33.02,2.54)
Top Overlay:
  lines w0.2: -1.27,-1.905 -0.635,-1.27 ; -0.423,-2.54 -0.423,-5.927 0,-6.35 0.423,-5.927 0.423,-2.54 ; 2.117,-2.54 2.117,-5.927 2.54,-6.35 2.963,-5.927 2.963,-2.54 ; 4.657,-2.54 4.657,-5.927 5.08,-6.35 5.503,-5.927 5.503,-2.54 ; 7.197,-2.54 7.197,-5.927 7.62,-6.35 8.043,-5.927 8.043,-2.54 ; 9.737,-2.54 9.737,-5.927 10.16,-6.35 10.583,-5.927 10.583,-2.54 ; 12.277,-2.54 12.277,-5.927 12.7,-6.35 13.123,-5.927 13.123,-2.54 ; 14.817,-2.54 14.817,-5.927 15.24,-6.35 15.663,-5.927 15.663,-2.54 ; 17.357,-2.54 17.357,-5.927 17.78,-6.35 18.203,-5.927 18.203,-2.54 ; 19.897,-2.54 19.897,-5.927 20.32,-6.35 20.743,-5.927 20.743,-2.54 ; 22.437,-2.54 22.437,-5.927 22.86,-6.35 23.283,-5.927 23.283,-2.54 ; 24.977,-2.54 24.977,-5.927 25.4,-6.35 25.823,-5.927 25.823,-2.54 ; 27.517,-2.54 27.517,-5.927 27.94,-6.35 28.363,-5.927 28.363,-2.54 ; 30.057,-2.54 30.057,-5.927 30.48,-6.35 30.903,-5.927 30.903,-2.54 ; 32.597,-2.54 32.597,-5.927 33.02,-6.35 33.443,-5.927 33.443,-2.54 ; -1.27,-2.54 34.29,-2.54 34.29,-1.27 -1.27,-1.27 -1.27,-2.54
  text "2" at -2.54,2.032 h1.27
  text "1" at -2.032,-0.508 h1.27
  text "27" at 34.544,-0.508 h1.27
  text "28" at 34.544,2.032 h1.27

## HDR2X15 [mm] "Connector; Header; 15x2 Position"
pads (30):
  rect 1.5x1.5 hole 0.9: 1(0,0)
  round 1.5 hole 0.9: 2(0,2.54) 3(2.54,0) 4(2.54,2.54) 5(5.08,0) 6(5.08,2.54) 7(7.62,0) 8(7.62,2.54) 9(10.16,0) 10(10.16,2.54) 11(12.7,0) 12(12.7,2.54) 13(15.24,0) 14(15.24,2.54) 15(17.78,0) 16(17.78,2.54) 17(20.32,0) 18(20.32,2.54) 19(22.86,0) 20(22.86,2.54) 21(25.4,0) 22(25.4,2.54) 23(27.94,0) 24(27.94,2.54) 25(30.48,0) 26(30.48,2.54) 27(33.02,0) 28(33.02,2.54) 29(35.56,0) 30(35.56,2.54)
Top Overlay:
  lines w0.2: -1.27,-1.27 36.83,-1.27 36.83,3.81 -1.27,3.81 -1.27,-1.27
  text "1" at -2.54,-0.508 h1.27
  text "2" at -2.54,2.032 h1.27
  text "29" at 37.084,-0.508 h1.27
  text "30" at 37.084,2.032 h1.27
3D body: height 1.5, standoff 0, extent -1.27,-1.27 1.27,1.27
3D body: height 1.5, standoff 0, extent -1.27,1.27 1.27,3.81
3D body: height 1.5, standoff 0, extent 1.27,-1.27 3.81,1.27
3D body: height 1.5, standoff 0, extent 1.27,1.27 3.81,3.81
3D body: height 1.5, standoff 0, extent 3.81,-1.27 6.35,1.27
3D body: height 1.5, standoff 0, extent 3.81,1.27 6.35,3.81
3D body: height 1.5, standoff 0, extent 6.35,-1.27 8.89,1.27
3D body: height 1.5, standoff 0, extent 6.35,1.27 8.89,3.81
3D body: height 1.5, standoff 0, extent 8.89,-1.27 11.43,1.27
3D body: height 1.5, standoff 0, extent 8.89,1.27 11.43,3.81
3D body: height 1.5, standoff 0, extent 11.43,-1.27 13.97,1.27
3D body: height 1.5, standoff 0, extent 11.43,1.27 13.97,3.81
3D body: height 1.5, standoff 0, extent 13.97,-1.27 16.51,1.27
3D body: height 1.5, standoff 0, extent 13.97,1.27 16.51,3.81
3D body: height 1.5, standoff 0, extent 16.51,-1.27 19.05,1.27
3D body: height 1.5, standoff 0, extent 16.51,1.27 19.05,3.81
3D body: height 1.5, standoff 0, extent 19.05,-1.27 21.59,1.27
3D body: height 1.5, standoff 0, extent 19.05,1.27 21.59,3.81
3D body: height 1.5, standoff 0, extent 21.59,-1.27 24.13,1.27
3D body: height 1.5, standoff 0, extent 21.59,1.27 24.13,3.81
3D body: height 1.5, standoff 0, extent 24.13,-1.27 26.67,1.27
3D body: height 1.5, standoff 0, extent 24.13,1.27 26.67,3.81
3D body: height 1.5, standoff 0, extent 29.21,1.27 31.75,3.81
3D body: height 1.5, standoff 0, extent 29.21,-1.27 31.75,1.27
3D body: height 1.5, standoff 0, extent 26.67,1.27 29.21,3.81
3D body: height 1.5, standoff 0, extent 26.67,-1.27 29.21,1.27
3D body: height 1.5, standoff 0, extent 34.29,1.27 36.83,3.81
3D body: height 1.5, standoff 0, extent 34.29,-1.27 36.83,1.27
3D body: height 1.5, standoff 0, extent 31.75,1.27 34.29,3.81
3D body: height 1.5, standoff 0, extent 31.75,-1.27 34.29,1.27